# Altium footprint library Switch#csv.PcbLib: 4 footprints
Each footprint in its own frame and in the unit in brackets; x right, y up, seen from the top. Pads: shape width x height; smd on the part's side, far side on the other; paste and mask are expansions set on the pad; w line width, h text height; cw(c..) or ccw(c..) is an arc to the next point about the centre after c.
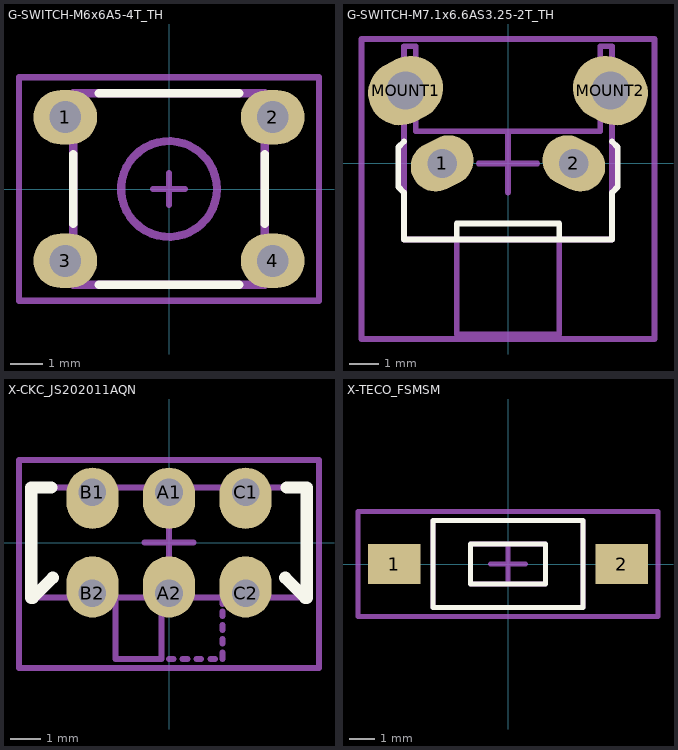
[diagram p0: the footprints below, top view; thin cyan lines are the x and y axes]

## G-SWITCH-M6x6A5-4T_TH [mm] "Tactile Switch, 6x6mm, Though Hole, 5mm Height"
height 5
pads (4):
  oval 2x1.7 hole 1: 1(-3.25,2.25) 2(3.25,2.25) 3(-3.25,-2.25) 4(3.25,-2.25)
Top Overlay:
  lines w0.254: -3,-1.1 -3,1.1 ; -2.2,-3 2.2,-3 ; -2.2,3 2.2,3 ; 3,-1.1 3,1.1
Mechanical 13:
  circle w0.254: c0,0 r1.5
  lines w0.254: -3,-3 3,-3 3,3 -3,3 -3,-3
Mechanical 15:
  lines w0.2: -0.5,0 0.5,0 ; 0,-0.5 0,0.5 ; -4.7,-3.5 -4.7,3.5 -3.8,3.5 4.7,3.5 4.7,-3.5 -4.7,-3.5
3D body: height 4.95, standoff -3.38, extent -3.8,-3.104 3.891,2.903

## G-SWITCH-M7.1x6.6AS3.25-2T_TH [mm] "Switch Tactile, Side actuated, Thru hole"
height 7
pads (4):
  oval 2.2x1.7 hole 1 rot 26.6: 1(-2.25,0)
  oval 2.2x1.7 hole 1 rot 153.4: 2(2.25,0)
  oval 2.6x2.2 hole 1.3 rot 26.6: MOUNT1(-3.5,2.49)
  oval 2.6x2.2 hole 1.3 rot 153.4: MOUNT2(3.5,2.49)
Top Overlay:
  lines w0.2: -3.55,0.75 -3.75,0.55 -3.75,-0.8 -3.55,-1 -3.55,-2.6 3.55,-2.6 3.55,-1 3.75,-0.8 3.75,0.55 3.55,0.75 ; -1.75,-2.6 -1.75,-2.05 1.75,-2.05 1.75,-2.6
Mechanical 13:
  lines w0.2: -1.75,-2.6 -1.75,-5.85 1.75,-5.85 1.75,-2.6 ; -3.55,-2.6 3.55,-2.6 3.55,1.1 3.55,4 3.15,4 3.15,1.1 -3.15,1.1 -3.15,4 -3.55,4 -3.55,1.1 -3.55,-2.6
Mechanical 15:
  lines w0.2: -1,0 1,0 ; 0,-1 0,1 ; -5,-6 -5,4.25 5,4.25 5,-6 -5,-6
3D body: height 7, standoff -3.52, extent -4.204,-5.769 4.204,4.074

## X-CKC_JS202011AQN [mm] "Slide Switch, DPDT, Thru hole, JS Series"
height 3.5
pads (6):
  oval 1.7x2 hole 0.9 copper offset 0,-0.2: A1(0,1.65) B1(-2.5,1.65) C1(2.5,1.65)
  oval 1.7x2 hole 0.9 copper offset 0,0.2: A2(0,-1.65) B2(-2.5,-1.65) C2(2.5,-1.65)
Top Overlay:
  lines w0.4: -4.5,-1.8 -4.5,1.8 -3.85,1.8 ; -4.45,-1.8 -3.8,-1.15 ; 3.8,-1.15 4.45,-1.8 ; 3.85,1.8 4.5,1.8 4.5,-1.8
Mechanical 13:
  lines w0.2: -1.75,-1.8 -1.75,-3.8 -0.25,-3.8 -0.25,-1.8 ; 0,-3.8 0.15,-3.8 ; 0.45,-3.8 0.6,-3.8 ; 0.9,-3.8 1.05,-3.8 ; 1.35,-3.8 1.5,-3.8 ; 1.75,-3.8 1.75,-3.6 ; 1.75,-3.3 1.75,-3.15 ; 1.75,-2.85 1.75,-2.7 ; 1.75,-2.4 1.75,-2.25 ; 1.75,-2 1.75,-1.8 ; -4.5,-1.8 4.5,-1.8 4.5,1.8 -4.5,1.8 -4.5,-1.8
Mechanical 15:
  lines w0.2: -0.8,0 0.8,0 ; 0,-0.8 0,0.8 ; -4.9,-4.1 -4.9,2.7 4.9,2.7 4.9,-4.1 -4.9,-4.1
3D body: height 3.25, standoff 1.75, extent -1.749,-3.799 -0.251,-1.801
3D body: height 3.5, standoff 0, extent -4.499,-1.799 4.499,1.799

## X-TECO_FSMSM [mm]
pads (2):
  rect 2.1x1.6 smd: 1(-4.55,0) 2(4.55,0)
Top Overlay:
  lines w0.2: -3,-1.75 -3,1.75 3,1.75 3,-1.75 -3,-1.75 ; -1.5,-0.8 -1.5,0.8 1.5,0.8 1.5,-0.8 -1.5,-0.8
Mechanical 13:
  lines w0.2: -3,-1.75 3,-1.75 3,1.75 -3,1.75 -3,-1.75 ; -1.5,-0.8 1.5,-0.8 1.5,0.8 -1.5,0.8 -1.5,-0.8
Mechanical 15:
  lines w0.2: -0.7,0 0.7,0 ; 0,-0.7 0,0.7 ; -6,-2.1 -6,2.1 6,2.1 6,-2.1 -6,-2.1
3D body: height 4.4, standoff -0.02, extent -4.985,-1.778 4.984,1.722